# Altium footprint library CAN_6.3x7.7.PcbLib: 1 footprints
Each footprint in its own frame and in the unit in brackets; x right, y up, seen from the top. Pads: shape width x height; smd on the part's side, far side on the other; paste and mask are expansions set on the pad; w line width, h text height; cw(c..) or ccw(c..) is an arc to the next point about the centre after c.
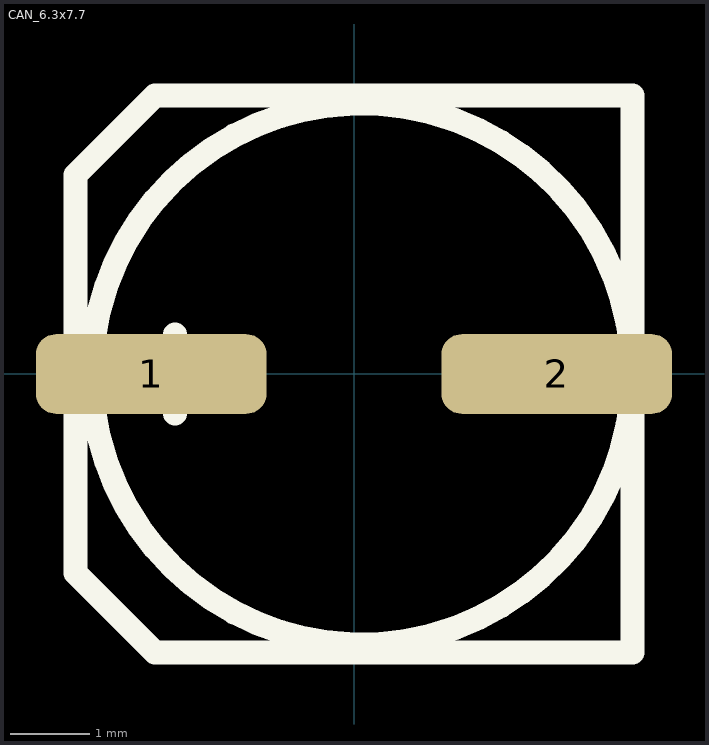
[diagram p0: the footprint, top view; thin cyan lines are the x and y axes]

## CAN_6.3x7.7 [mm]
pads (2):
  rrect50% 2.9x1 smd: 1(-2.55,0) 2(2.55,0)
Top Overlay:
  circle w0.3: c0.1,0 r3.4
  lines w0.3: -2.75,0 -1.75,0 ; -2.25,-0.5 -2.25,0.5 ; -3.5,-2.5 -3.5,2.5 -2.5,3.5 3.5,3.5 3.5,-3.5 -2.5,-3.5 -3.5,-2.5
3D body: height 0.5, standoff 0, extent -3.5,-3.5 3.5,3.5
3D body: height 8.5, standoff 0.5, extent -3.25,-3.5 3.523,3.287